# Altium schematic symbol library TDC7200.SchLib: 1 symbol
Pins are listed as number, name and electrical type; pins without a type are passive.

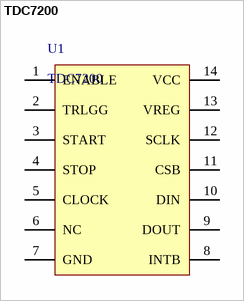
[diagram p0: symbol TDC7200]

## TDC7200
designator U1
footprint TSSOP14 (Footprint not found)
pins: 1 ENABLE (power), 2 TRLGG (power), 3 START (power), 4 STOP (power), 5 CLOCK (power), 6 NC (power), 7 GND (power), 8 INTB (power), 9 DOUT (power), 10 DIN (power), 11 CSB (power), 12 SCLK (power), 13 VREG (power), 14 VCC (power)